# Altium footprint library BC817-40.PcbLib: 3 footprints
Each footprint in its own frame and in the unit in brackets; x right, y up, seen from the top. Pads: shape width x height; smd on the part's side, far side on the other; paste and mask are expansions set on the pad; w line width, h text height; cw(c..) or ccw(c..) is an arc to the next point about the centre after c.
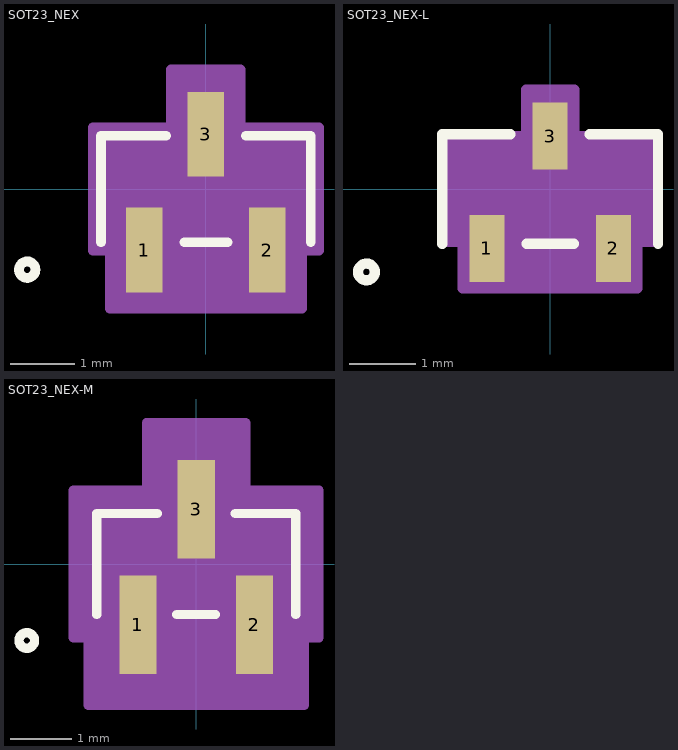
[diagram p0: the footprints below, top view; thin cyan lines are the x and y axes]

## SOT23_NEX [mil]
pads (3):
  rect 22.36x51.56 smd paste+3.86 mask+4: 1(-37.5,-37.21) 2(37.5,-37.21) 3(0,33.36)
Top Overlay:
  circle w6: c-109,-49.21 r5
  lines w6: -64,-32.5 -64,32.5 -24.28,32.5 ; -13.22,-32.5 13.22,-32.5 ; 24.28,32.5 64,32.5 64,-32.5
  text ".Designator" at -137.5,-25 h50
Mechanical 13:
  circle w1: c-49,-17.5 r5
  lines w1: -59,-27.5 59,-27.5 59,27.5 -59,27.5 -59,-27.5 ; -47.5,-49.21 -47.5,-27.5 -27.5,-27.5 -27.5,-49.21 -47.5,-49.21 ; -10,27.5 10,27.5 10,49.21 -10,49.21 -10,27.5 ; 27.5,-49.21 27.5,-27.5 47.5,-27.5 47.5,-49.21 27.5,-49.21
  text ".Designator" at -137.5,-25 h50
Mechanical 15:
  region: -69,-37.5 -69,37.5 -21.18,37.5 -21.18,72.99 21.18,72.99 21.18,37.5 69,37.5 69,-37.5 58.68,-37.5 58.68,-72.99 -58.68,-72.99 -58.68,-37.5
  region: 59,-27.5 -59,-27.5 -59,27.5 59,27.5
  lines w6: -69,-37.5 -69,37.5 -21.18,37.5 -21.18,72.99 21.18,72.99 21.18,37.5 69,37.5 69,-37.5 58.68,-37.5 58.68,-72.99 -58.68,-72.99 -58.68,-37.5 -69,-37.5
3D body "SOT23_NEX.step": height 43.11, standoff 0, extent -59.02,-49.21 59.02,49.21

## SOT23_NEX-L [mil]
pads (3):
  rect 20.79x39.75 smd paste+3.86 mask+4: 1(-37.5,-35.24) 2(37.5,-35.24) 3(0,31.39)
Top Overlay:
  circle w6: c-109,-49.21 r5
  lines w6: -64,-32.5 -64,32.5 -23.49,32.5 ; -14.01,-32.5 14.01,-32.5 ; 23.49,32.5 64,32.5 64,-32.5
  text ".Designator" at -137.5,-25 h50
Mechanical 13:
  circle w1: c-49,-17.5 r5
  lines w1: -59,-27.5 59,-27.5 59,27.5 -59,27.5 -59,-27.5 ; -47.5,-49.21 -47.5,-27.5 -27.5,-27.5 -27.5,-49.21 -47.5,-49.21 ; -10,27.5 10,27.5 10,49.21 -10,49.21 -10,27.5 ; 27.5,-49.21 27.5,-27.5 47.5,-27.5 47.5,-49.21 27.5,-49.21
  text ".Designator" at -137.5,-25 h50
Mechanical 15:
  region: -63,-31.5 -63,31.5 -14.39,31.5 -14.39,59.12 14.39,59.12 14.39,31.5 63,31.5 63,-31.5 51.89,-31.5 51.89,-59.12 -51.89,-59.12 -51.89,-31.5
  region: 59,-27.5 -59,-27.5 -59,27.5 59,27.5
  lines w6: -63,-31.5 -63,31.5 -14.39,31.5 -14.39,59.12 14.39,59.12 14.39,31.5 63,31.5 63,-31.5 51.89,-31.5 51.89,-59.12 -51.89,-59.12 -51.89,-31.5 -63,-31.5
3D body "SOT23_NEX.step": height 43.11, standoff 0, extent -59.02,-49.21 59.02,49.21

## SOT23_NEX-M [mil]
pads (3):
  rect 23.94x63.37 smd paste+3.86 mask+4: 1(-37.5,-39.18) 2(37.5,-39.18) 3(0,35.32)
Top Overlay:
  circle w6: c-109,-49.21 r5
  lines w6: -64,-32.5 -64,32.5 -25.07,32.5 ; -12.43,-32.5 12.43,-32.5 ; 25.07,32.5 64,32.5 64,-32.5
  text ".Designator" at -137.5,-25 h50
Mechanical 13:
  circle w1: c-49,-17.5 r5
  lines w1: -59,-27.5 59,-27.5 59,27.5 -59,27.5 -59,-27.5 ; -47.5,-49.21 -47.5,-27.5 -27.5,-27.5 -27.5,-49.21 -47.5,-49.21 ; -10,27.5 10,27.5 10,49.21 -10,49.21 -10,27.5 ; 27.5,-49.21 27.5,-27.5 47.5,-27.5 47.5,-49.21 27.5,-49.21
  text ".Designator" at -137.5,-25 h50
Mechanical 15:
  region: -79,-47.5 -79,47.5 -31.97,47.5 -31.97,90.87 31.97,90.87 31.97,47.5 79,47.5 79,-47.5 69.47,-47.5 69.47,-90.87 -69.47,-90.87 -69.47,-47.5
  region: 59,-27.5 -59,-27.5 -59,27.5 59,27.5
  lines w6: -79,-47.5 -79,47.5 -31.97,47.5 -31.97,90.87 31.97,90.87 31.97,47.5 79,47.5 79,-47.5 69.47,-47.5 69.47,-90.87 -69.47,-90.87 -69.47,-47.5 -79,-47.5
3D body "SOT23_NEX.step": height 43.11, standoff 0, extent -59.02,-49.21 59.02,49.21